# EAGLE library part CON_02X03 (library PP_Connectors)
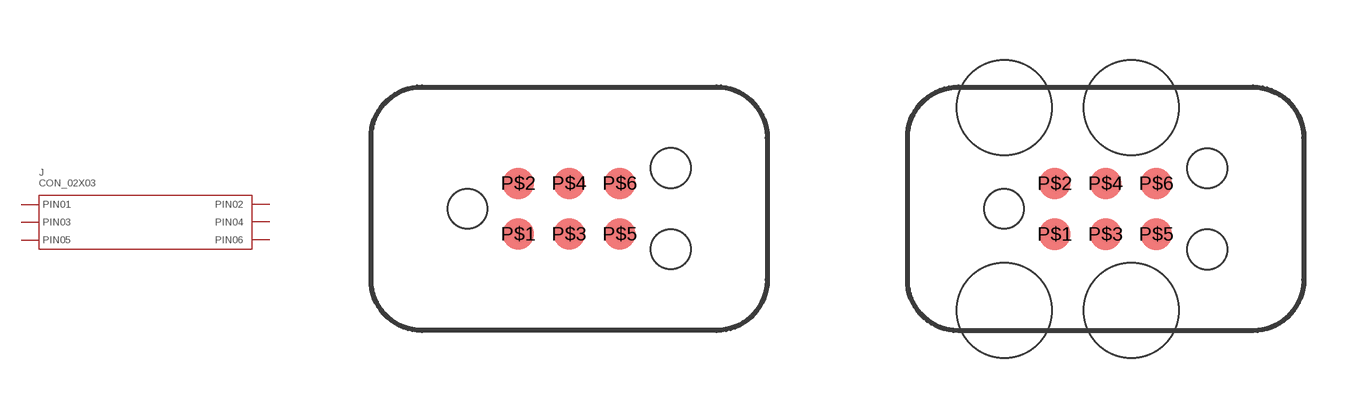
[diagram p20: symbol with the pads of TC2030; footprints TC2030, TC2030_LEG]

Designator prefix J

## CON_02X03_TC2030 (POPULATE: 0; VALUE: TC2030-NL)  [TC2030]
P$1  PIN1
P$2  PIN2
P$3  PIN3
P$4  PIN4
P$5  PIN5
P$6  PIN6

## CON_02X03_TC2030_LEG (POPULATE: 0; VALUE: TC2030)  [TC2030_LEG]
Pads as for TC2030

## CON_02X03_30306-6002HB (MPN: 30306-6002HB; POPULATE: 1; VALUE: 30306-6002HB)  [30306-6002HB]
1  PIN1
2  PIN2
3  PIN3
4  PIN4
5  PIN5
6  PIN6

## CON_02X03_M20-8750342  [M20-8750342]
Pads as for 30306-6002HB

## CON_02X03_SSM-103-F-DV (MPN: SSM-103-F-DV-BE)  [SSM-103-F-DV]
Pads as for TC2030

## CON_02X03_ER06BGFBK  [ER06BGFBK]
Pads as for TC2030

## CON_02X03_M20-7920342R  [M20-7920342R]
Pads as for TC2030

## Footprint TC2030 (pad centres in mm)
smd 0.787 x 0.787: P$1 -1.27,-0.635; P$2 -1.27,0.635; P$3 0,-0.635; P$4 0,0.635; P$5 1.27,-0.635; P$6 1.27,0.635
hole 0.991 at 2.54,1.016
hole 0.991 at 2.54,-1.016
hole 0.991 at -2.54,0

## Footprint TC2030_LEG (pad centres in mm)
smd 0.787 x 0.787: P$1 -1.27,-0.635; P$2 -1.27,0.635; P$3 0,-0.635; P$4 0,0.635; P$5 1.27,-0.635; P$6 1.27,0.635
hole 0.991 at 2.54,1.016
hole 0.991 at 2.54,-1.016
hole 0.991 at -2.54,0
hole 2.375 at -2.54,2.54
hole 2.375 at 0.635,2.54
hole 2.375 at 0.635,-2.54
hole 2.375 at -2.54,-2.54

## Footprint 30306-6002HB (pad centres in mm)
drill 0.9 square: 1 2.54,1.27; 2 2.54,-1.27; 3 0,1.27; 4 0,-1.27; 5 -2.54,1.27; 6 -2.54,-1.27

## Footprint M20-8750342 (pad centres in mm)
smd 1 x 3.15: 1 -2.54,-2.54; 2 -2.54,2.54; 3 0,-2.54; 4 0,2.54; 5 2.54,-2.54; 6 2.54,2.54
hole 2 at -1.27,0
hole 2 at 1.27,0

## Footprint SSM-103-F-DV (pad centres in mm)
smd 1.27 x 3.81: P$1 -2.54,-2.667; P$2 -2.54,2.667; P$3 0,-2.667; P$4 0,2.667; P$5 2.54,-2.667; P$6 2.54,2.667

## Footprint ER06BGFBK (pad centres in mm)
drill 1 octagon: P$1 -2.54,-5.08
drill 1: P$2 -2.54,0; P$3 0,-5.08; P$4 0,0; P$5 2.54,-5.08; P$6 2.54,0

## Footprint M20-7920342R (pad centres in mm)
smd 1 x 2: P$1 -2.54,-3.5; P$2 -2.54,0; P$3 0,-3.5; P$4 0,0; P$5 2.54,-3.5; P$6 2.54,0